# Altium footprint library EEM_FMC_Carrier.PcbLib: 109 footprints (part 4 of 7)
Each footprint in its own frame and in the unit in brackets; x right, y up, seen from the top. Pads: shape width x height; smd on the part's side, far side on the other; paste and mask are expansions set on the pad; w line width, h text height; cw(c..) or ccw(c..) is an arc to the next point about the centre after c.
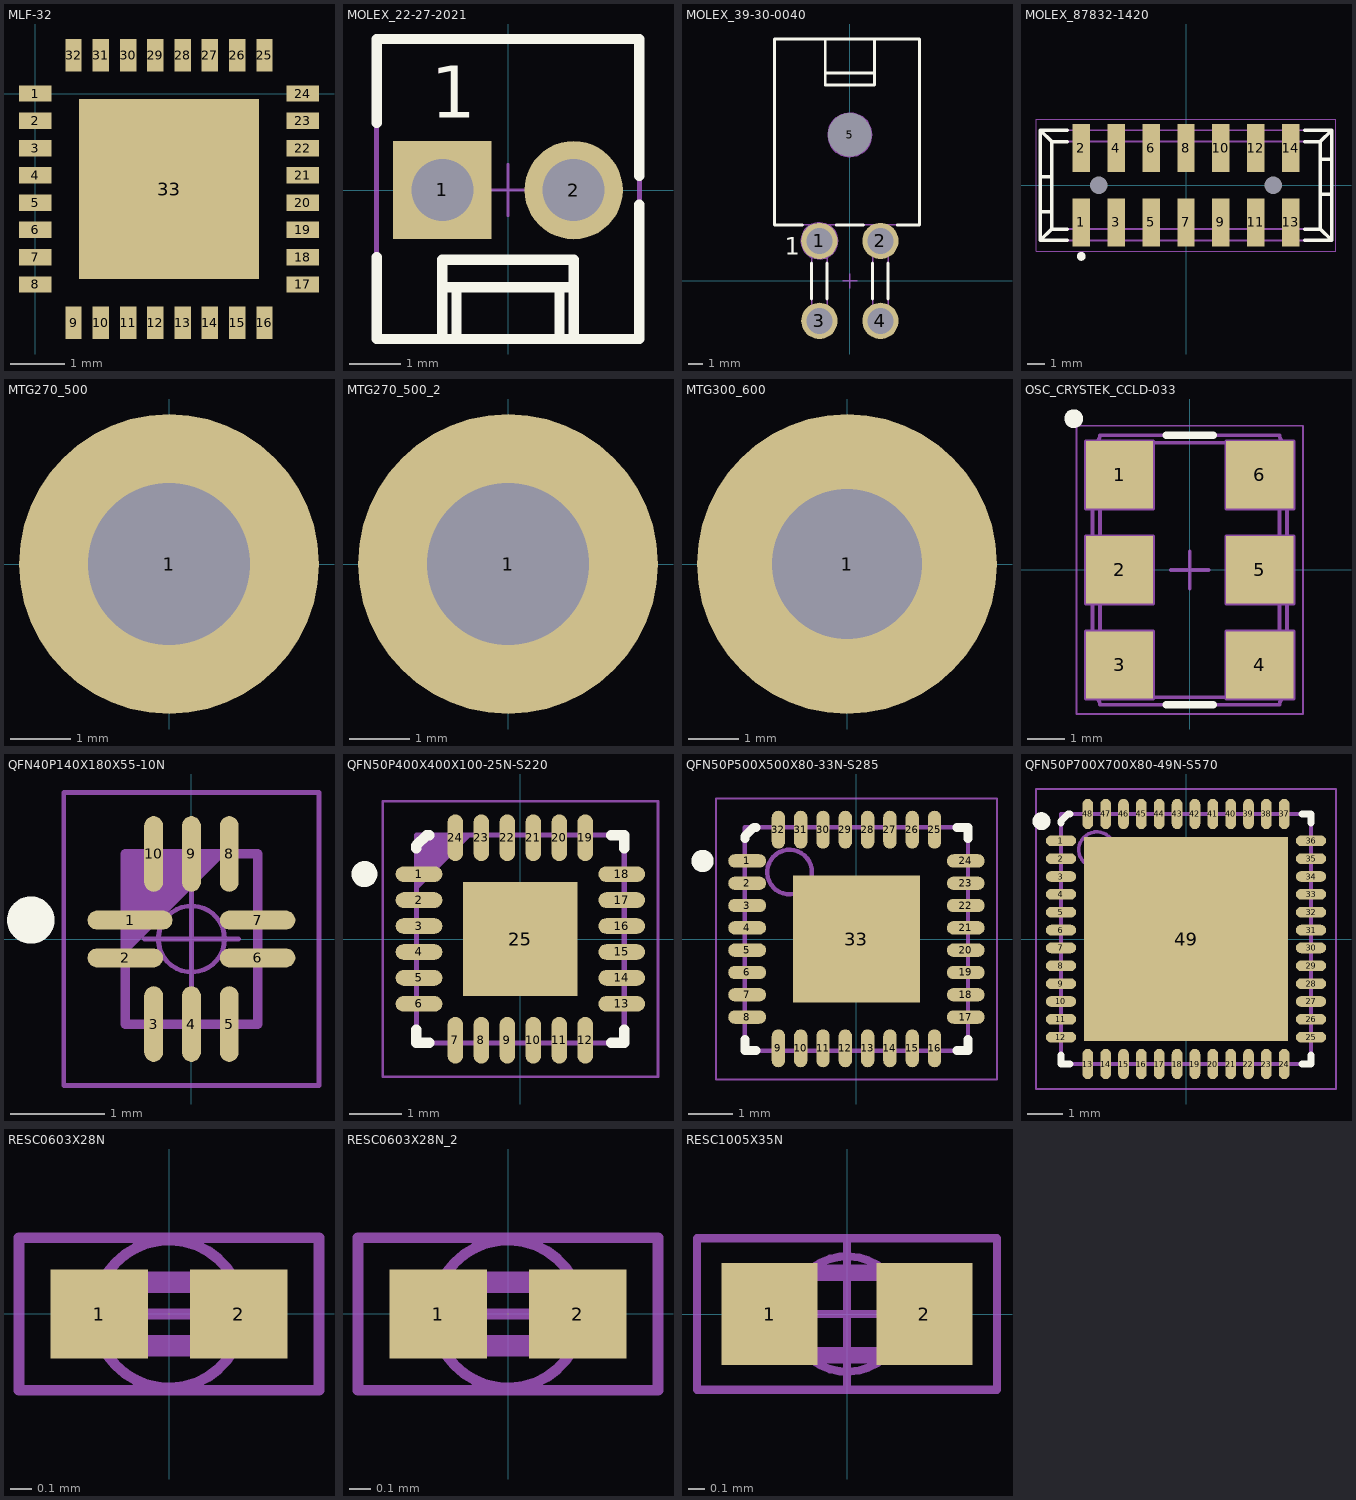
[diagram p3: the footprints below, top view; thin cyan lines are the x and y axes]

## MLF-32 [mm]
pads (33):
  rect 0.6x0.3 smd: 1(0,0) 2(0,-0.5) 3(0,-1) 4(0,-1.5) 5(0,-2) 6(0,-2.5) 7(0,-3) 8(0,-3.5) 17(4.9,-3.5) 18(4.9,-3) 19(4.9,-2.5) 20(4.9,-2) 21(4.9,-1.5) 22(4.9,-1) 23(4.9,-0.5) 24(4.9,0)
  rect 0.3x0.6 smd: 9(0.7,-4.2) 10(1.2,-4.2) 11(1.7,-4.2) 12(2.2,-4.2) 13(2.7,-4.2) 14(3.2,-4.2) 15(3.7,-4.2) 16(4.2,-4.2) 25(4.2,0.7) 26(3.7,0.7) 27(3.2,0.7) 28(2.7,0.7) 29(2.2,0.7) 30(1.7,0.7) 31(1.2,0.7) 32(0.7,0.7)
  rect 3.3x3.3 smd: 33(2.45,-1.75)

## MOLEX_22-27-2021 [mm]
pads (2):
  rect 1.9x1.9 hole 1.2: 1(-1.27,0.002)
  round 1.9 hole 1.2: 2(1.27,-0.002)
Top Overlay:
  lines w0.2: -2.54,-1.298 -2.54,-2.88 2.54,-2.88 2.54,-0.28 ; -2.54,1.302 -2.54,2.92 2.54,2.92 2.54,0.275 ; -1.27,-2.88 -1.27,-1.35 1.27,-1.35 1.27,-2.88 ; -1.27,-1.88 1.27,-1.88 ; -0.997,-2.88 -0.997,-1.88 ; 0.997,-2.88 0.997,-1.88
  text "1" at -1.49,1.397 h1
Mechanical 8:
  lines w0.05: -1.77,0.002 -1.27,0.002 ; -1.27,-0.497 -1.27,0.002 ; -1.27,0.503 -1.27,0.002 ; -0.77,0.002 -1.27,0.002 ; -0.5,0 0,0 ; 0,-0.5 0,0 ; 0,0.5 0,0 ; 0.5,0 0,0 ; 0.77,-0.002 1.27,-0.002 ; 1.27,-0.503 1.27,-0.002 ; 1.27,0.497 1.27,-0.002 ; 1.77,-0.002 1.27,-0.002
Mechanical 14:
  lines w0.1: -1.27,-2.88 -1.27,-1.35 1.27,-1.35 1.27,-2.88 ; -1.27,-1.88 1.27,-1.88 ; -0.997,-2.88 -0.997,-1.88 ; 0.997,-2.88 0.997,-1.88 ; -2.54,-2.88 -2.54,2.92 2.54,2.92 2.54,-2.88 -2.54,-2.88 ; -1.59,-0.315 -0.95,-0.315 -0.95,0.32 -1.59,0.32 -1.59,-0.315 ; 0.95,-0.32 0.95,0.32 1.59,0.32 1.59,-0.32 0.95,-0.32
  text "1" at -1.49,1.397 h1
3D body "MOLEX_22-27-2021.stp": height 11.7, standoff -3.56, extent -2.54,-2.88 2.54,2.92

## MOLEX_39-30-0040 [mm]
pads (5):
  round 2.5 hole 1.8: 1(-2.1,2.75) 2(2.1,2.75) 3(-2.1,-2.75) 4(2.1,-2.75)
  round 1 hole 3 unplated mask+1: 5(0,10.05)
Top Overlay:
  lines w0.2: -3.262,3.85 -5.2,3.85 -5.2,16.65 4.8,16.65 4.8,3.85 3.262,3.85 ; -2.635,-1.242 -2.635,1.242 ; -1.7,14.3 1.7,14.3 ; -1.7,16.65 -1.7,13.478 1.7,13.478 1.7,16.65 ; -1.565,-1.242 -1.565,1.242 ; -0.938,3.85 0.938,3.85 ; 1.565,-1.242 1.565,1.242 ; 2.635,-1.242 2.635,1.242
  text "1" at -4.475,1.8 h1.2
Mechanical 8:
  circle w0.1: c0,10.05 r1.5
  circle w0.1: c-2.1,2.75 r0.9
  circle w0.1: c-2.1,2.75 r1.25
  lines w0.1: -2.6,-2.75 -2.1,-2.75 ; -2.6,2.75 -2.1,2.75 ; -2.1,-3.25 -2.1,-2.75 ; -2.1,-2.25 -2.1,-2.75 ; -2.1,2.25 -2.1,2.75 ; -2.1,3.25 -2.1,2.75 ; -1.6,-2.75 -2.1,-2.75 ; -1.6,2.75 -2.1,2.75 ; -0.5,0 0,0 ; -0.5,10.05 0,10.05 ; 0,-0.5 0,0 ; 0,0.5 0,0 ; 0,9.55 0,10.05 ; 0,10.55 0,10.05 ; 0.5,0 0,0 ; 0.5,10.05 0,10.05 ; 1.6,-2.75 2.1,-2.75 ; 1.6,2.75 2.1,2.75 ; 2.1,-3.25 2.1,-2.75 ; 2.1,-2.25 2.1,-2.75 ; 2.1,2.25 2.1,2.75 ; 2.1,3.25 2.1,2.75 ; 2.6,-2.75 2.1,-2.75 ; 2.6,2.75 2.1,2.75
Mechanical 14:
  lines w0.1: -2.635,3.85 -2.635,-3.285 -1.565,-3.285 -1.565,3.85 ; -1.7,14.3 1.7,14.3 ; -1.7,16.65 -1.7,13.478 1.7,13.478 1.7,16.65 ; 1.565,3.85 1.565,-3.285 2.635,-3.285 2.635,3.85 ; -5.2,3.85 4.8,3.85 4.8,16.65 -5.2,16.65 -5.2,3.85
  text "1" at -4.475,1.8 h1.2
3D body "MOLEX_39-30-0040.stp": height 11.4, standoff -3.6, extent -5.2,-3.285 4.8,16.65

## MOLEX_87832-1420 [mm]
pads (16):
  rect 1x2.75 smd: 1(-6,-2.125) 2(-6,2.125) 3(-4,-2.125) 4(-4,2.125) 5(-2,-2.125) 6(-2,2.125) 7(0,-2.125) 8(0,2.125) 9(2,-2.125) 10(2,2.125) 11(4,-2.125) 12(4,2.125) 13(6,-2.125) 14(6,2.125)
  round 0.5 hole 1 unplated mask+0.25: 15(-5,0) 16(5,0)
Top Overlay:
  circle w0.25: c-5.985,-4.064 r0.125
  lines w0.2: -8.325,-1.5 -7.675,-1.5 ; -8.325,0.5 -7.675,0.5 ; -6.8,-3.15 -8.325,-3.15 ; -6.8,-2.5 -7.675,-2.5 ; -6.8,2.5 -7.675,2.5 ; -6.8,3.15 -8.325,3.15 ; 6.8,-3.15 8.325,-3.15 ; 6.8,-2.5 7.675,-2.5 ; 6.8,2.5 7.675,2.5 ; 6.8,3.15 8.325,3.15 ; 7.675,-0.5 8.325,-0.5 ; 7.675,1.5 8.325,1.5 ; -8.325,-3.15 -7.675,-2.5 ; -8.325,-3.15 -8.325,3.15 ; -8.325,3.15 -7.675,2.5 ; -7.675,-2.5 -7.675,2.5 ; 7.675,-2.5 7.675,2.5 ; 7.675,-2.5 8.325,-3.15 ; 7.675,-2.5 8.325,-3.15 ; 7.675,2.5 8.325,3.15 ; 7.675,2.5 8.325,3.15 ; 8.325,-3.15 8.325,3.15
Mechanical 14:
  lines w0.1: -8.325,-1.5 -7.675,-1.5 ; -8.325,0.5 -7.675,0.5 ; 7.675,-0.5 8.325,-0.5 ; 7.675,1.5 8.325,1.5 ; -8.325,-3.15 -8.325,3.15 ; -8.325,-3.15 -7.675,-2.5 ; -8.325,-3.15 8.325,-3.15 ; -8.325,3.15 -7.675,2.5 ; -8.325,3.15 8.325,3.15 ; -7.675,-2.5 7.675,-2.5 ; -7.675,-2.5 -7.675,2.5 ; -7.675,2.5 7.675,2.5 ; 7.675,-2.5 8.325,-3.15 ; 7.675,-2.5 8.325,-3.15 ; 7.675,-2.5 7.675,2.5 ; 7.675,2.5 8.325,3.15 ; 7.675,2.5 8.325,3.15 ; 8.325,-3.15 8.325,3.15
Mechanical 15:
  lines w0.05: -8.575,-3.765 8.575,-3.765 8.575,3.765 -8.575,3.765 -8.575,-3.765
3D body "MOLEX_87832-1420.stp": height 7.6, standoff -0.75, extent -8.325,-3.15 8.325,3.15

## MTG270_500 [mm]
pads (1):
  round 5 hole 2.7: 1(0,0)

## MTG270_500_2 [mm]
pads (1):
  round 5 hole 2.7: 1(0,0)

## MTG300_600 [mm]
pads (1):
  round 6 hole 3: 1(0,0)

## OSC_CRYSTEK_CCLD-033 [mm]
pads (6):
  rect 1.8x1.8 smd: 1(-1.875,2.54) 2(-1.875,0) 3(-1.875,-2.54) 4(1.875,-2.54) 5(1.875,0) 6(1.875,2.54)
Top Overlay:
  circle w0.25: c-3.1,4.04 r0.125
  lines w0.2: -0.625,-3.6 0.625,-3.6 ; -0.625,3.6 0.625,3.6
Mechanical 8:
  lines w0.1: -2.375,-2.54 -1.875,-2.54 ; -2.375,0 -1.875,0 ; -2.375,2.54 -1.875,2.54 ; -1.875,-3.04 -1.875,-2.54 ; -1.875,-2.04 -1.875,-2.54 ; -1.875,-0.5 -1.875,0 ; -1.875,0.5 -1.875,0 ; -1.875,2.04 -1.875,2.54 ; -1.875,3.04 -1.875,2.54 ; -1.375,-2.54 -1.875,-2.54 ; -1.375,0 -1.875,0 ; -1.375,2.54 -1.875,2.54 ; -0.5,0 0,0 ; 0,-0.5 0,0 ; 0,0.5 0,0 ; 0.5,0 0,0 ; 1.375,-2.54 1.875,-2.54 ; 1.375,0 1.875,0 ; 1.375,2.54 1.875,2.54 ; 1.875,-3.04 1.875,-2.54 ; 1.875,-2.04 1.875,-2.54 ; 1.875,-0.5 1.875,0 ; 1.875,0.5 1.875,0 ; 1.875,2.04 1.875,2.54 ; 1.875,3.04 1.875,2.54 ; 2.375,-2.54 1.875,-2.54 ; 2.375,0 1.875,0 ; 2.375,2.54 1.875,2.54 ; -2.775,-3.44 -0.975,-3.44 -0.975,-1.64 -2.775,-1.64 -2.775,-3.44 ; -2.775,-0.9 -0.975,-0.9 -0.975,0.9 -2.775,0.9 -2.775,-0.9 ; -2.775,1.64 -0.975,1.64 -0.975,3.44 -2.775,3.44 -2.775,1.64 ; 0.975,-3.44 2.775,-3.44 2.775,-1.64 0.975,-1.64 0.975,-3.44 ; 0.975,-0.9 2.775,-0.9 2.775,0.9 0.975,0.9 0.975,-0.9 ; 0.975,1.64 2.775,1.64 2.775,3.44 0.975,3.44 0.975,1.64
Mechanical 14:
  circle w0.1: c-1.5,2.5 r0.5
  lines w0.1: -2.6,-3.4 -2.6,-2.84 ccw(c-2.6,-2.64) -2.4,-2.64 -2.4,-2.44 ccw(c-2.6,-2.44) -2.6,-2.24 -2.6,-0.3 ccw(c-2.6,-0.1) -2.4,-0.1 -2.4,0.1 ccw(c-2.6,0.1) -2.6,0.3 -2.6,2.24 ccw(c-2.6,2.44) -2.4,2.44 -2.4,2.64 ccw(c-2.6,2.64) -2.6,2.84 -2.6,3.4 ccw(c-2.6,3.6) -2.4,3.6 2.4,3.6 ccw(c2.6,3.6) 2.6,3.4 2.6,2.84 ccw(c2.6,2.64) 2.4,2.64 2.4,2.44 ccw(c2.6,2.44) 2.6,2.24 2.6,0.3 ccw(c2.6,0.1) 2.4,0.1 2.4,-0.1 ccw(c2.6,-0.1) 2.6,-0.3 2.6,-2.24 ccw(c2.6,-2.44) 2.4,-2.44 2.4,-2.64 ccw(c2.6,-2.64) 2.6,-2.84 2.6,-3.4 ccw(c2.6,-3.6) 2.4,-3.6 -2.4,-3.6 ccw(c-2.6,-3.6) -2.594,-3.4 ; -2.4,-3 ccw(c-2,-3) -2,-3.4 2,-3.4 ccw(c2,-3) 2.4,-3 2.4,3 ccw(c2,3) 2,3.4 -2,3.4 ccw(c-2,3) -2.4,3 -2.4,-3
Mechanical 15:
  lines w0.05: -3.025,-3.85 3.025,-3.85 3.025,3.85 -3.025,3.85 -3.025,-3.85
3D body "OSC_CRYSTEK_CCLD-033.stp": height 1.8, standoff 0, extent -2.6,-3.6 2.6,3.6

## QFN40P140X180X55-10N [mm]
pads (10):
  oval 0.9x0.2 smd: 1(-0.65,0.2)
  oval 0.8x0.2 smd: 2(-0.7,-0.2) 6(0.7,-0.2) 7(0.7,0.2)
  oval 0.2x0.8 smd: 3(-0.4,-0.9) 4(0,-0.9) 5(0.4,-0.9) 8(0.4,0.9) 9(0,0.9) 10(-0.4,0.9)
Top Overlay:
  circle w0.25: c-1.7,0.2 r0.125
Mechanical 14:
  lines w0.1: -0.7,-0.1 0.3,0.9 ; -0.7,0 0.2,0.9 ; -0.7,0.1 0.1,0.9 ; -0.7,0.2 0,0.9 ; -0.7,0.3 -0.1,0.9 ; -0.7,0.4 -0.2,0.9 ; -0.7,0.5 -0.3,0.9 ; -0.7,0.6 -0.4,0.9 ; -0.7,0.7 -0.5,0.9 ; -0.7,0.8 -0.6,0.9 ; -0.7,-0.9 0.7,-0.9 0.7,0.9 -0.7,0.9 -0.7,-0.9
Mechanical 15:
  circle w0.05: c0,0 r0.35
  lines w0.05: -0.5,0 0.5,0 ; 0,-0.5 0,0.5 ; -1.35,-1.55 1.35,-1.55 1.35,1.55 -1.35,1.55 -1.35,-1.55
3D body "QFN40P140X180X55-10N.stp": height 0.55, standoff 0, extent -0.7,-0.9 0.7,0.9

## QFN50P400X400X100-25N-S220 [mm]
pads (25):
  oval 0.9x0.3 smd: 1(-1.95,1.25) 2(-1.95,0.75) 3(-1.95,0.25) 4(-1.95,-0.25) 5(-1.95,-0.75) 6(-1.95,-1.25) 13(1.95,-1.25) 14(1.95,-0.75) 15(1.95,-0.25) 16(1.95,0.25) 17(1.95,0.75) 18(1.95,1.25)
  oval 0.3x0.9 smd: 7(-1.25,-1.95) 8(-0.75,-1.95) 9(-0.25,-1.95) 10(0.25,-1.95) 11(0.75,-1.95) 12(1.25,-1.95) 19(1.25,1.95) 20(0.75,1.95) 21(0.25,1.95) 22(-0.25,1.95) 23(-0.75,1.95) 24(-1.25,1.95)
  rect 2.2x2.2 smd: 25(0,0)
Top Overlay:
  circle w0.25: c-3,1.25 r0.125
  lines w0.2: -2,-1.75 -2,-2 -1.75,-2 ; -2,1.75 -2,1.8 -1.8,2 -1.75,2 ; 1.75,-2 2,-2 2,-1.75 ; 1.75,2 2,2 2,1.75
Mechanical 14:
  lines w0.1: -2,1 -1,2 ; -2,1.1 -1.1,2 ; -2,1.2 -1.2,2 ; -2,1.3 -1.3,2 ; -2,1.4 -1.4,2 ; -2,1.5 -1.5,2 ; -2,1.6 -1.6,2 ; -2,1.7 -1.7,2 ; -2,1.8 -1.8,2 ; -2,1.9 -1.9,2 ; -2,-2 2,-2 2,2 -2,2 -2,-2
Mechanical 15:
  circle w0.05: c0,0 r0.35
  lines w0.05: -0.5,0 0.5,0 ; 0,-0.5 0,0.5 ; -2.65,-2.65 2.65,-2.65 2.65,2.65 -2.65,2.65 -2.65,-2.65
3D body "QFN50P400X400X100-25N-S220.stp": height 1, standoff 0, extent -2.075,-2.075 2.075,2.075

## QFN50P500X500X80-33N-S285 [mm]
pads (33):
  oval 0.85x0.3 smd: 1(-2.45,1.75) 2(-2.45,1.25) 3(-2.45,0.75) 4(-2.45,0.25) 5(-2.45,-0.25) 6(-2.45,-0.75) 7(-2.45,-1.25) 8(-2.45,-1.75) 17(2.45,-1.75) 18(2.45,-1.25) 19(2.45,-0.75) 20(2.45,-0.25) 21(2.45,0.25) 22(2.45,0.75) 23(2.45,1.25) 24(2.45,1.75)
  oval 0.3x0.85 smd: 9(-1.75,-2.45) 10(-1.25,-2.45) 11(-0.75,-2.45) 12(-0.25,-2.45) 13(0.25,-2.45) 14(0.75,-2.45) 15(1.25,-2.45) 16(1.75,-2.45) 25(1.75,2.45) 26(1.25,2.45) 27(0.75,2.45) 28(0.25,2.45) 29(-0.25,2.45) 30(-0.75,2.45) 31(-1.25,2.45) 32(-1.75,2.45)
  rect 2.85x2.85 smd: 33(0,0)
Top Overlay:
  circle w0.25: c-3.45,1.75 r0.125
  lines w0.2: -2.5,-2.25 -2.5,-2.5 -2.25,-2.5 ; -2.5,2.25 -2.5,2.3 -2.3,2.5 -2.25,2.5 ; 2.25,-2.5 2.5,-2.5 2.5,-2.25 ; 2.25,2.5 2.5,2.5 2.5,2.25
Mechanical 14:
  circle w0.1: c-1.5,1.5 r0.5
  lines w0.1: -2.5,-2.5 2.5,-2.5 2.5,2.5 -2.5,2.5 -2.5,-2.5
Mechanical 15:
  circle w0.05: c0,0 r0.35
  lines w0.05: -0.5,0 0.5,0 ; 0,-0.5 0,0.5 ; -3.15,-3.15 3.15,-3.15 3.15,3.15 -3.15,3.15 -3.15,-3.15
3D body "QFN50P500X500X80-33N-S285.stp": height 0.8, standoff 0, extent -2.5,-2.5 2.5,2.5

## QFN50P700X700X80-49N-S570 [mm]
pads (49):
  oval 0.85x0.3 smd: 1(-3.5,2.75) 2(-3.5,2.25) 3(-3.5,1.75) 4(-3.5,1.25) 5(-3.5,0.75) 6(-3.5,0.25) 7(-3.5,-0.25) 8(-3.5,-0.75) 9(-3.5,-1.25) 10(-3.5,-1.75) 11(-3.5,-2.25) 12(-3.5,-2.75) 25(3.5,-2.75) 26(3.5,-2.25) 27(3.5,-1.75) 28(3.5,-1.25) 29(3.5,-0.75) 30(3.5,-0.25) 31(3.5,0.25) 32(3.5,0.75) 33(3.5,1.25) 34(3.5,1.75) 35(3.5,2.25) 36(3.5,2.75)
  oval 0.3x0.85 smd: 13(-2.75,-3.5) 14(-2.25,-3.5) 15(-1.75,-3.5) 16(-1.25,-3.5) 17(-0.75,-3.5) 18(-0.25,-3.5) 19(0.25,-3.5) 20(0.75,-3.5) 21(1.25,-3.5) 22(1.75,-3.5) 23(2.25,-3.5) 24(2.75,-3.5) 37(2.75,3.5) 38(2.25,3.5) 39(1.75,3.5) 40(1.25,3.5) 41(0.75,3.5) 42(0.25,3.5) 43(-0.25,3.5) 44(-0.75,3.5) 45(-1.25,3.5) 46(-1.75,3.5) 47(-2.25,3.5) 48(-2.75,3.5)
  rect 5.7x5.7 smd: 49(0,0)
Top Overlay:
  circle w0.25: c-4.048,3.299 r0.125
  lines w0.2: -3.5,-3.25 -3.5,-3.5 -3.25,-3.5 ; -3.5,3.25 -3.5,3.3 -3.3,3.5 -3.25,3.5 ; 3.25,-3.5 3.5,-3.5 3.5,-3.25 ; 3.25,3.5 3.5,3.5 3.5,3.25
Top Paste:
  region: 0.35,0.35 0.35,2.15 2.15,2.15 2.15,0.35
  region: -2.15,0.35 -2.15,2.15 -0.35,2.15 -0.35,0.35
  region: 0.35,-2.15 0.35,-0.35 2.15,-0.35 2.15,-2.15
  region: -2.15,-2.15 -2.15,-0.35 -0.35,-0.35 -0.35,-2.15
Mechanical 14:
  circle w0.1: c-2.5,2.5 r0.5
  lines w0.1: -3.5,-3.5 3.5,-3.5 3.5,3.5 -3.5,3.5 -3.5,-3.5
Mechanical 15:
  circle w0.05: c0,0 r0.35
  lines w0.05: -0.5,0 0.5,0 ; 0,-0.5 0,0.5 ; -4.2,-4.2 4.2,-4.2 4.2,4.2 -4.2,4.2 -4.2,-4.2
3D body "QFN50P700X700X80-49N-S570.stp": height 0.8, standoff 0, extent -3.5,-3.5 3.5,3.5

## RADIAN_FI23 [mm]
3D body "INL23001-10-1.7Y T725 - 05-Sep-2019.STEP": height 9.61, standoff -2.19, extent -14.897,-13.639 15.203,12.061

## RESC0603X28N [mm]
pads (2):
  rect 0.46x0.42 smd: 1(-0.33,0) 2(0.33,0)
Mechanical 14:
  lines w0.1: -0.3,-0.15 -0.3,0.15 0.3,0.15 0.3,-0.15 -0.3,-0.15
Mechanical 15:
  circle w0.05: c0,0 r0.35
  lines w0.05: -0.5,0 0.5,0 ; -0.71,-0.36 -0.71,0.36 0.71,0.36 0.71,-0.36 -0.71,-0.36
3D body "RESC0603X28N.stp": height 0.28, standoff 0, extent -0.325,-0.175 0.325,0.175

## RESC0603X28N_2 [mm]
pads (2):
  rect 0.46x0.42 smd: 1(-0.33,0) 2(0.33,0)
Mechanical 14:
  lines w0.1: -0.3,-0.15 0.3,-0.15 0.3,0.15 -0.3,0.15 -0.3,-0.15
Mechanical 15:
  circle w0.05: c0,0 r0.35
  lines w0.05: -0.5,0 0.5,0 ; -0.71,-0.36 0.71,-0.36 0.71,0.36 -0.71,0.36 -0.71,-0.36
3D body "RESC0603X28N.stp": height 0.28, standoff 0, extent -0.325,-0.175 0.325,0.175

## RESC1005X35N [mm]
pads (2):
  rect 0.58x0.62 smd: 1(-0.47,0) 2(0.47,0)
Mechanical 14:
  lines w0.1: -0.5,-0.25 0.5,-0.25 0.5,0.25 -0.5,0.25 -0.5,-0.25
Mechanical 15:
  circle w0.05: c0,0 r0.35
  lines w0.05: -0.5,0 0.5,0 ; 0,-0.46 0,0.46 ; -0.91,-0.46 0.91,-0.46 0.91,0.46 -0.91,0.46 -0.91,-0.46
3D body "RESC1005X35N.stp": height 0.35, standoff 0, extent -0.525,-0.275 0.525,0.275